# Altium schematic symbol library ae3-wlcsp208.SchLib: 1 symbol
Pins are listed as number, name and electrical type; pins without a type are passive.

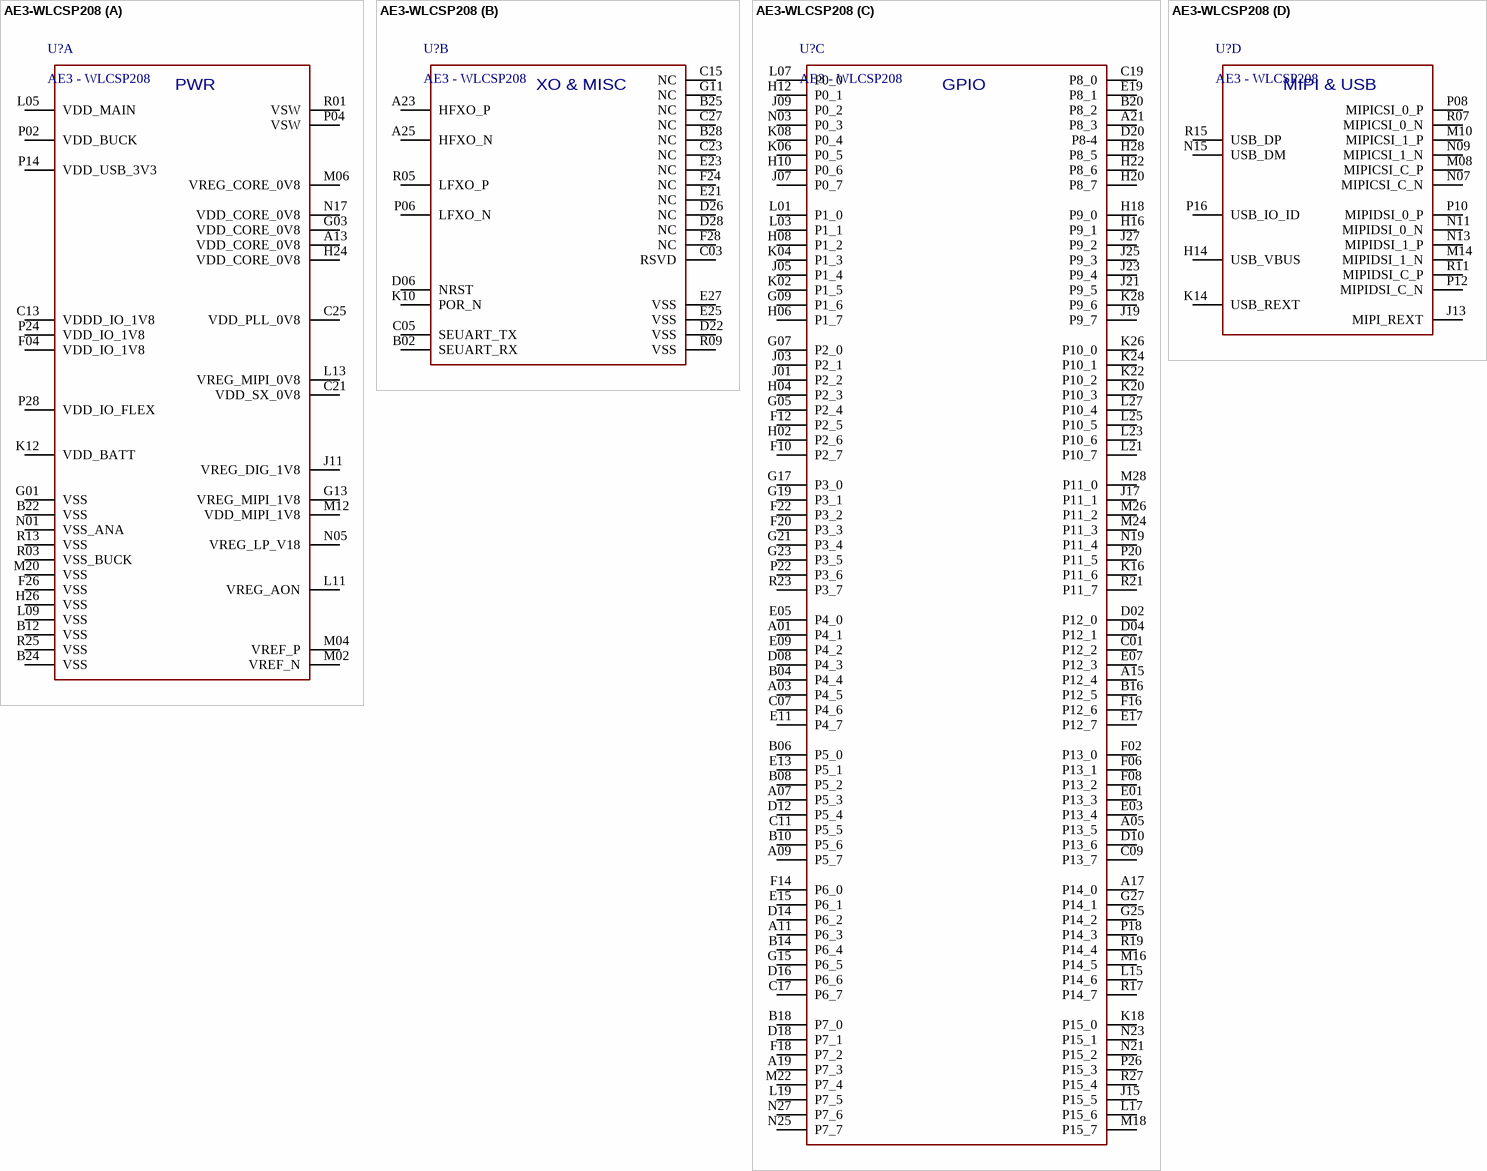
[diagram p0: symbol AE3-WLCSP208]

## AE3-WLCSP208
designator U?, comment AE3 - WLCSP208
footprint WLCSP208 (Footprint not found)
part A pins: A13 VDD_CORE_0V8, B12 VSS, B22 VSS, B24 VSS, C13 VDDD_IO_1V8, C21 VDD_SX_0V8, C25 VDD_PLL_0V8, F04 VDD_IO_1V8, F26 VSS, G01 VSS, G03 VDD_CORE_0V8, G13 VREG_MIPI_1V8, H24 VDD_CORE_0V8, H26 VSS, J11 VREG_DIG_1V8, K12 VDD_BATT, L05 VDD_MAIN, L09 VSS, L11 VREG_AON, L13 VREG_MIPI_0V8, M02 VREF_N, M04 VREF_P, M06 VREG_CORE_0V8, M12 VDD_MIPI_1V8, M20 VSS, N01 VSS_ANA, N05 VREG_LP_V18, N17 VDD_CORE_0V8, P02 VDD_BUCK, P04 VSW, P14 VDD_USB_3V3, P24 VDD_IO_1V8, P28 VDD_IO_FLEX, R01 VSW, R03 VSS_BUCK, R13 VSS, R25 VSS
part B pins: A23 HFXO_P, A25 HFXO_N, B02 SEUART_RX, B25 NC, B28 NC, C03 RSVD, C05 SEUART_TX, C15 NC, C23 NC, C27 NC, D06 NRST, D22 VSS, D26 NC, D28 NC, E21 NC, E23 NC, E25 VSS, E27 VSS, F24 NC, F28 NC, G11 NC, K10 POR_N, P06 LFXO_N, R05 LFXO_P, R09 VSS
part C pins: A01 P4_1, A03 P4_5, A05 P13_5, A07 P5_3, A09 P5_7, A11 P6_3, A15 P12_4, A17 P14_0, A19 P7_3, A21 P8_3, B04 P4_4, B06 P5_0, B08 P5_2, B10 P5_6, B14 P6_4, B16 P12_5, B18 P7_0, B20 P8_2, C01 P12_2, C07 P4_6, C09 P13_7, C11 P5_5, C17 P6_7, C19 P8_0, D02 P12_0, D04 P12_1, D08 P4_3, D10 P13_6, D12 P5_4, D14 P6_2, D16 P6_6, D18 P7_1, D20 P8-4, E01 P13_3, E03 P13_4, E05 P4_0, E07 P12_3, E09 P4_2, E11 P4_7, E13 P5_1, E15 P6_1, E17 P12_7, E19 P8_1, F02 P13_0, F06 P13_1, F08 P13_2, F10 P2_7, F12 P2_5, F14 P6_0, F16 P12_6, F18 P7_2, F20 P3_3, F22 P3_2, G05 P2_4, G07 P2_0, G09 P1_6, G15 P6_5, G17 P3_0, G19 P3_1, G21 P3_4, G23 P3_5, G25 P14_2, G27 P14_1, H02 P2_6, H04 P2_3, H06 P1_7, H08 P1_2, H10 P0_6, H12 P0_1, H16 P9_1, H18 P9_0, H20 P8_7, H22 P8_6, H28 P8_5, J01 P2_2, J03 P2_1, J05 P1_4, J07 P0_7, J09 P0_2, J15 P15_5, J17 P11_1, J19 P9_7, J21 P9_5, J23 P9_4, J25 P9_3, J27 P9_2, K02 P1_5, K04 P1_3, K06 P0_5, K08 P0_4, K16 P11_6, K18 P15_0, K20 P10_3, K22 P10_2, K24 P10_1, K26 P10_0, K28 P9_6, L01 P1_0, L03 P1_1, L07 P0_0, L15 P14_6, L17 P15_6, L19 P7_5, L21 P10_7, L23 P10_6, L25 P10_5, L27 P10_4, M16 P14_5, M18 P15_7, M22 P7_4, M24 P11_3, M26 P11_2, M28 P11_0, N03 P0_3, N19 P11_4, N21 P15_2, N23 P15_1, N25 P7_7, N27 P7_6, P18 P14_3, P20 P11_5, P22 P3_6, P26 P15_3, R17 P14_7, R19 P14_4, R21 P11_7, R23 P3_7, R27 P15_4
part D pins: H14 USB_VBUS, J13 MIPI_REXT, K14 USB_REXT, M08 MIPICSI_C_P, M10 MIPICSI_1_P, M14 MIPIDSI_1_N, N07 MIPICSI_C_N, N09 MIPICSI_1_N, N11 MIPIDSI_0_N, N13 MIPIDSI_1_P, N15 USB_DM, P08 MIPICSI_0_P, P10 MIPIDSI_0_P, P12 MIPIDSI_C_N, P16 USB_IO_ID, R07 MIPICSI_0_N, R11 MIPIDSI_C_P, R15 USB_DP
part A text: PWR
part B text: XO & MISC
part C text: GPIO
part D text: MIPI & USB